# EAGLE library part MAX67XX (library chips_old)
A simple watchdog timer with adjustable timeouts and reset time
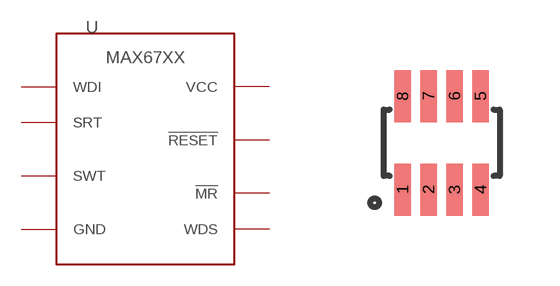
[diagram p75: symbol with the pads of SOT-23-8; footprint SOT-23-8]

Designator prefix U

## MAX67XXMAX6746MAX67XX (DIGIKEY: MAX6746KA26+TCT-ND; MANUFACTURER: Maxim Integrated; MPN: MAX6746KA26+T), MAX67XXMAX6749MAX67XX (DIGIKEY: MAX6749KA+TCT-ND; MANUFACTURER: Maxim Integrated; MPN: MAX6749KA+T)  [SOT-23-8]
1  !MR
2  SWT
3  SRT
4  GND
5  WDS
6  WDI
7  !RESET
8  VCC

## Footprint SOT-23-8 (pad centres in mm)
smd 0.42 x 1.3: 1 -0.975,-1.17; 2 -0.325,-1.17; 3 0.325,-1.17; 4 0.975,-1.17; 5 0.975,1.17; 6 0.325,1.17; 7 -0.325,1.17; 8 -0.975,1.17